# Altium schematic symbol library KSM_603TM2.Schlib: 1 symbol
Pins are listed as number, name and electrical type; pins without a type are passive.

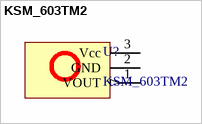
[diagram p0: symbol KSM_603TM2]

## KSM_603TM2
designator U?
IR RECEIVER MODULE
pins: 1 VOUT (out), 2 GND (power), 3 Vcc (power)